# Altium footprint library 220uF_CAP.PcbLib: 1 footprints
Each footprint in its own frame and in the unit in brackets; x right, y up, seen from the top. Pads: shape width x height; smd on the part's side, far side on the other; paste and mask are expansions set on the pad; w line width, h text height; cw(c..) or ccw(c..) is an arc to the next point about the centre after c.
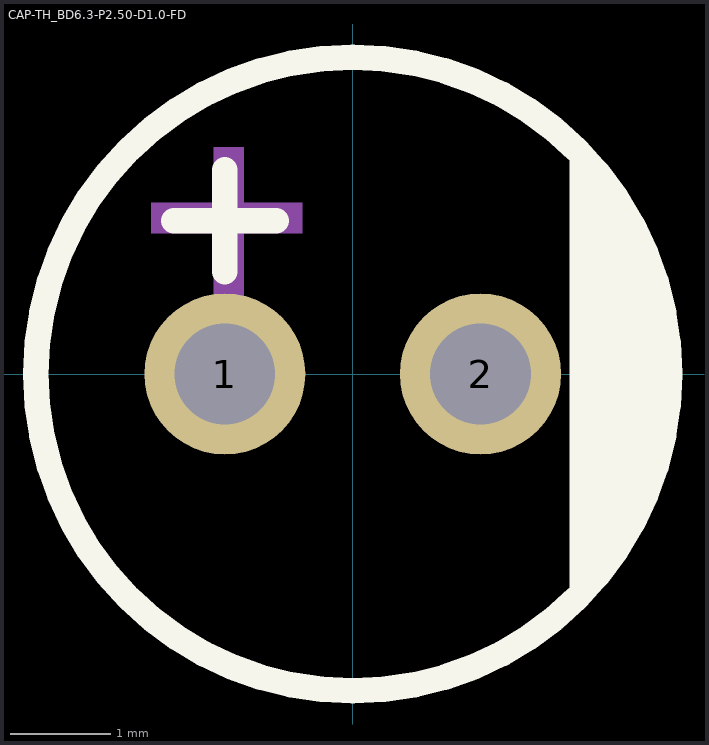
[diagram p0: the footprint, top view; thin cyan lines are the x and y axes]

## CAP-TH_BD6.3-P2.50-D1.0-FD [mm]
pads (2):
  round 1.6 hole 1 paste-2539.97 mask+0.051: 1(-1.27,0) 2(1.27,0)
Top Overlay:
  circle w0.254: c0,0 r3.15
  region: 2.159,2.286 2.319,2.142 2.595,1.812 2.822,1.447 2.997,1.054 3.115,0.641 3.175,0.215 3.175,-0.215 3.115,-0.641 2.997,-1.054 2.822,-1.447 2.595,-1.812 2.319,-2.142 2.159,-2.286
  lines w0.254: -1.778,1.524 -0.762,1.524 ; -1.27,1.016 -1.27,2.032
Mechanical 15:
  region: -1.381,0.752 -1.381,2.252 -1.081,2.252 -1.081,0.752
  region: -2,1.7 -0.5,1.7 -0.5,1.4 -2,1.4